# EAGLE library part M5-P144 (library amd-mach)
AMD MACH SERIES
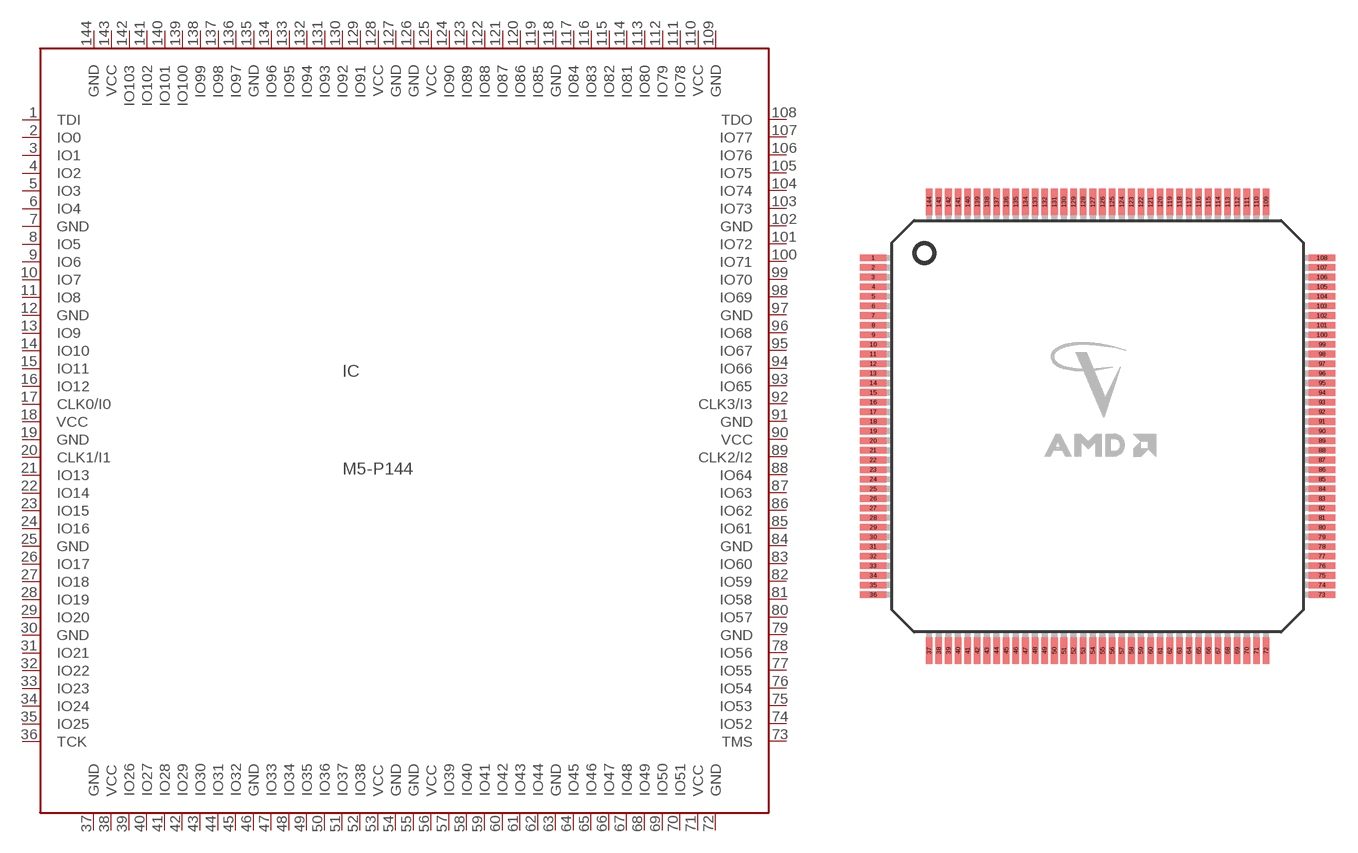
[diagram p14: symbol with the pads of PQFP144; footprint PQFP144]

Designator prefix IC

## M5-P144 (OC_FARNELL: unknown; OC_NEWARK: unknown)  [PQFP144]
1  TDI  in
2  IO0
3  IO1
4  IO2
5  IO3
6  IO4
7  GND  pwr
8  IO5
9  IO6
10  IO7
11  IO8
12  GND  pwr
13  IO9
14  IO10
15  IO11
16  IO12
17  CLK0/I0  in
18  VCC  pwr
19  GND  pwr
20  CLK1/I1  in
21  IO13
22  IO14
23  IO15
24  IO16
25  GND  pwr
26  IO17
27  IO18
28  IO19
29  IO20
30  GND  pwr
31  IO21
32  IO22
33  IO23
34  IO24
35  IO25
36  TCK  in
37  GND  pwr
38  VCC  pwr
39  IO26
40  IO27
41  IO28
42  IO29
43  IO30
44  IO31
45  IO32
46  GND  pwr
47  IO33
48  IO34
49  IO35
50  IO36
51  IO37
52  IO38
53  VCC  pwr
54  GND  pwr
55  GND  pwr
56  VCC  pwr
57  IO39
58  IO40
59  IO41
60  IO42
61  IO43
62  IO44
63  GND  pwr
64  IO45
65  IO46
66  IO47
67  IO48
68  IO49
69  IO50
70  IO51
71  VCC  pwr
72  GND  pwr
73  TMS  in
74  IO52
75  IO53
76  IO54
77  IO55
78  IO56
79  GND  pwr
80  IO57
81  IO58
82  IO59
83  IO60
84  GND  pwr
85  IO61
86  IO62
87  IO63
88  IO64
89  CLK2/I2  in
90  VCC  pwr
91  GND  pwr
92  CLK3/I3  in
93  IO65
94  IO66
95  IO67
96  IO68
97  GND  pwr
98  IO69
99  IO70
100  IO71
101  IO72
102  GND  pwr
103  IO73
104  IO74
105  IO75
106  IO76
107  IO77
108  TDO  out
109  GND  pwr
110  VCC  pwr
111  IO78
112  IO79
113  IO80
114  IO81
115  IO82
116  IO83
117  IO84
118  GND  pwr
119  IO85
120  IO86
121  IO87
122  IO88
123  IO89
124  IO90
125  VCC  pwr
126  GND  pwr
127  GND  pwr
128  VCC  pwr
129  IO91
130  IO92
131  IO93
132  IO94
133  IO95
134  IO96
135  GND  pwr
136  IO97
137  IO98
138  IO99
139  IO100
140  IO101
141  IO102
142  IO103
143  VCC  pwr
144  GND  pwr

## Footprint PQFP144 (pad centres in mm)
PLASTIC QUAD FLAT PACK
smd 1.8 x 0.45: 1 -15.15,11.375; 2 -15.15,10.725; 3 -15.15,10.075; 4 -15.15,9.425; 5 -15.15,8.775; 6 -15.15,8.125; 7 -15.15,7.475; 8 -15.15,6.825; 9 -15.15,6.175; 10 -15.15,5.525; 11 -15.15,4.875; 12 -15.15,4.225; 13 -15.15,3.575; 14 -15.15,2.925; 15 -15.15,2.275; 16 -15.15,1.625; 17 -15.15,0.975; 18 -15.15,0.325; 19 -15.15,-0.325; 20 -15.15,-0.975; 21 -15.15,-1.625; 22 -15.15,-2.275; 23 -15.15,-2.925; 24 -15.15,-3.575; 25 -15.15,-4.225; 26 -15.15,-4.875; 27 -15.15,-5.525; 28 -15.15,-6.175; 29 -15.15,-6.825; 30 -15.15,-7.475; 31 -15.15,-8.125; 32 -15.15,-8.775; 33 -15.15,-9.425; 34 -15.15,-10.075; 35 -15.15,-10.725; 36 -15.15,-11.375; 73 15.15,-11.375; 74 15.15,-10.725; 75 15.15,-10.075; 76 15.15,-9.425; 77 15.15,-8.775; 78 15.15,-8.125; 79 15.15,-7.475; 80 15.15,-6.825; 81 15.15,-6.175; 82 15.15,-5.525; 83 15.15,-4.875; 84 15.15,-4.225; 85 15.15,-3.575; 86 15.15,-2.925; 87 15.15,-2.275; 88 15.15,-1.625; 89 15.15,-0.975; 90 15.15,-0.325; 91 15.15,0.325; 92 15.15,0.975; 93 15.15,1.625; 94 15.15,2.275; 95 15.15,2.925; 96 15.15,3.575; 97 15.15,4.225; 98 15.15,4.875; 99 15.15,5.525; 100 15.15,6.175; 101 15.15,6.825; 102 15.15,7.475; 103 15.15,8.125; 104 15.15,8.775; 105 15.15,9.425; 106 15.15,10.075; 107 15.15,10.725; 108 15.15,11.375
smd 0.45 x 1.8: 37 -11.375,-15.15; 38 -10.725,-15.15; 39 -10.075,-15.15; 40 -9.425,-15.15; 41 -8.775,-15.15; 42 -8.125,-15.15; 43 -7.475,-15.15; 44 -6.825,-15.15; 45 -6.175,-15.15; 46 -5.525,-15.15; 47 -4.875,-15.15; 48 -4.225,-15.15; 49 -3.575,-15.15; 50 -2.925,-15.15; 51 -2.275,-15.15; 52 -1.625,-15.15; 53 -0.975,-15.15; 54 -0.325,-15.15; 55 0.325,-15.15; 56 0.975,-15.15; 57 1.625,-15.15; 58 2.275,-15.15; 59 2.925,-15.15; 60 3.575,-15.15; 61 4.225,-15.15; 62 4.875,-15.15; 63 5.525,-15.15; 64 6.175,-15.15; 65 6.825,-15.15; 66 7.475,-15.15; 67 8.125,-15.15; 68 8.775,-15.15; 69 9.425,-15.15; 70 10.075,-15.15; 71 10.725,-15.15; 72 11.375,-15.15; 109 11.375,15.15; 110 10.725,15.15; 111 10.075,15.15; 112 9.425,15.15; 113 8.775,15.15; 114 8.125,15.15; 115 7.475,15.15; 116 6.825,15.15; 117 6.175,15.15; 118 5.525,15.15; 119 4.875,15.15; 120 4.225,15.15; 121 3.575,15.15; 122 2.925,15.15; 123 2.275,15.15; 124 1.625,15.15; 125 0.975,15.15; 126 0.325,15.15; 127 -0.325,15.15; 128 -0.975,15.15; 129 -1.625,15.15; 130 -2.275,15.15; 131 -2.925,15.15; 132 -3.575,15.15; 133 -4.225,15.15; 134 -4.875,15.15; 135 -5.525,15.15; 136 -6.175,15.15; 137 -6.825,15.15; 138 -7.475,15.15; 139 -8.125,15.15; 140 -8.775,15.15; 141 -9.425,15.15; 142 -10.075,15.15; 143 -10.725,15.15; 144 -11.375,15.15